# EAGLE library part CSR1011 (library Jordi)
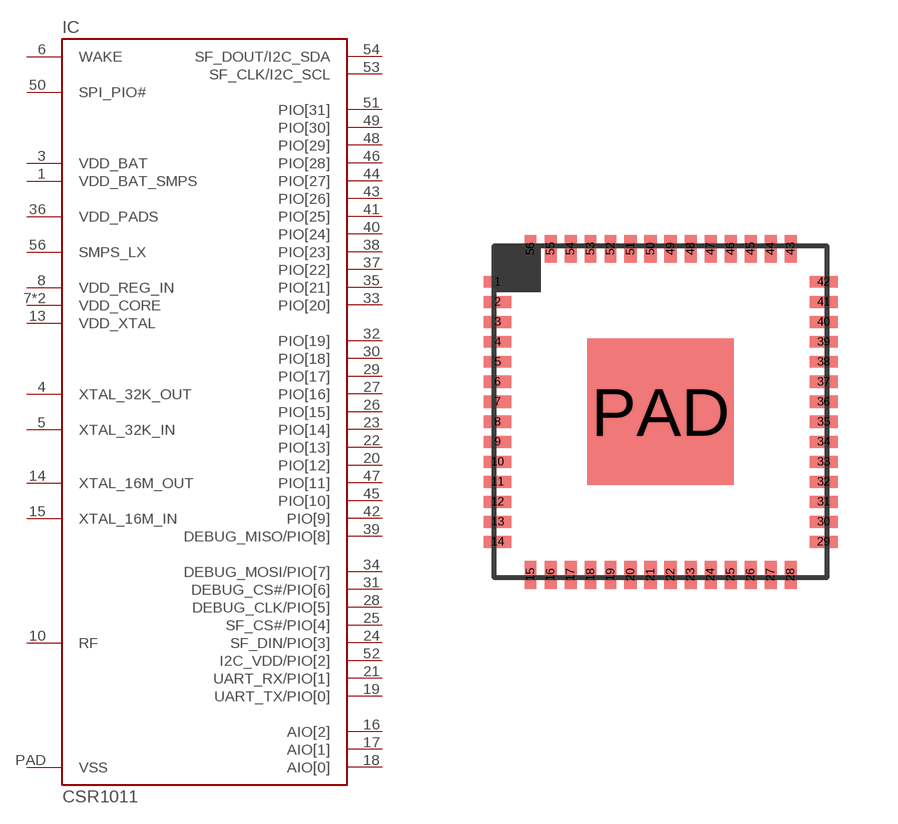
[diagram p47: symbol with the pads of QFN-56; footprint QFN-56]

Designator prefix IC

## CSR1011QFN  [QFN-56]
1  VDD_BAT_SMPS  pwr
3  VDD_BAT  pwr
4  XTAL_32K_OUT  out
5  XTAL_32K_IN  in
6  WAKE  in
7  VDD_CORE  pwr
8  VDD_REG_IN  pwr
10  RF
13  VDD_XTAL  pwr
14  XTAL_16M_OUT  out
15  XTAL_16M_IN  in
16  AIO[2]
17  AIO[1]
18  AIO[0]
19  UART_TX/PIO[0]
20  PIO[12]
21  UART_RX/PIO[1]
22  PIO[13]
23  PIO[14]
24  SF_DIN/PIO[3]
25  SF_CS#/PIO[4]
26  PIO[15]
27  PIO[16]
28  DEBUG_CLK/PIO[5]
29  PIO[17]
30  PIO[18]
31  DEBUG_CS#/PIO[6]
32  PIO[19]
33  PIO[20]
34  DEBUG_MOSI/PIO[7]
35  PIO[21]
36  VDD_PADS  pwr
37  PIO[22]
38  PIO[23]
39  DEBUG_MISO/PIO[8]
40  PIO[24]
41  PIO[25]
42  PIO[9]
43  PIO[26]
44  PIO[27]
45  PIO[10]
46  PIO[28]
47  PIO[11]
48  PIO[29]
49  PIO[30]
50  SPI_PIO#  in
51  PIO[31]
52  I2C_VDD/PIO[2]
53  SF_CLK/I2C_SCL  in
54  SF_DOUT/I2C_SDA
55  VDD_CORE  pwr
56  SMPS_LX  pwr
PAD  VSS  pwr

## Footprint QFN-56 (pad centres in mm)
smd 0.7 x 0.3: 1 -4.075,3.25; 2 -4.075,2.75; 3 -4.075,2.25; 4 -4.075,1.75; 5 -4.075,1.25; 6 -4.075,0.75; 7 -4.075,0.25; 8 -4.075,-0.25; 9 -4.075,-0.75; 10 -4.075,-1.25; 11 -4.075,-1.75; 12 -4.075,-2.25; 13 -4.075,-2.75; 14 -4.075,-3.25; 29 4.075,-3.25; 30 4.075,-2.75; 31 4.075,-2.25; 32 4.075,-1.75; 33 4.075,-1.25; 34 4.075,-0.75; 35 4.075,-0.25; 36 4.075,0.25; 37 4.075,0.75; 38 4.075,1.25; 39 4.075,1.75; 40 4.075,2.25; 41 4.075,2.75; 42 4.075,3.25
smd 0.3 x 0.7: 15 -3.25,-4.075; 16 -2.75,-4.075; 17 -2.25,-4.075; 18 -1.75,-4.075; 19 -1.25,-4.075; 20 -0.75,-4.075; 21 -0.25,-4.075; 22 0.25,-4.075; 23 0.75,-4.075; 24 1.25,-4.075; 25 1.75,-4.075; 26 2.25,-4.075; 27 2.75,-4.075; 28 3.25,-4.075; 43 3.25,4.075; 44 2.75,4.075; 45 2.25,4.075; 46 1.75,4.075; 47 1.25,4.075; 48 0.75,4.075; 49 0.25,4.075; 50 -0.25,4.075; 51 -0.75,4.075; 52 -1.25,4.075; 53 -1.75,4.075; 54 -2.25,4.075; 55 -2.75,4.075; 56 -3.25,4.075
smd 3.67 x 3.67: PAD 0,0